# Altium footprint library SamacSys.PcbLib: 89 footprints (part 4 of 6)
Each footprint in its own frame and in the unit in brackets; x right, y up, seen from the top. Pads: shape width x height; smd on the part's side, far side on the other; paste and mask are expansions set on the pad; w line width, h text height; cw(c..) or ccw(c..) is an arc to the next point about the centre after c.
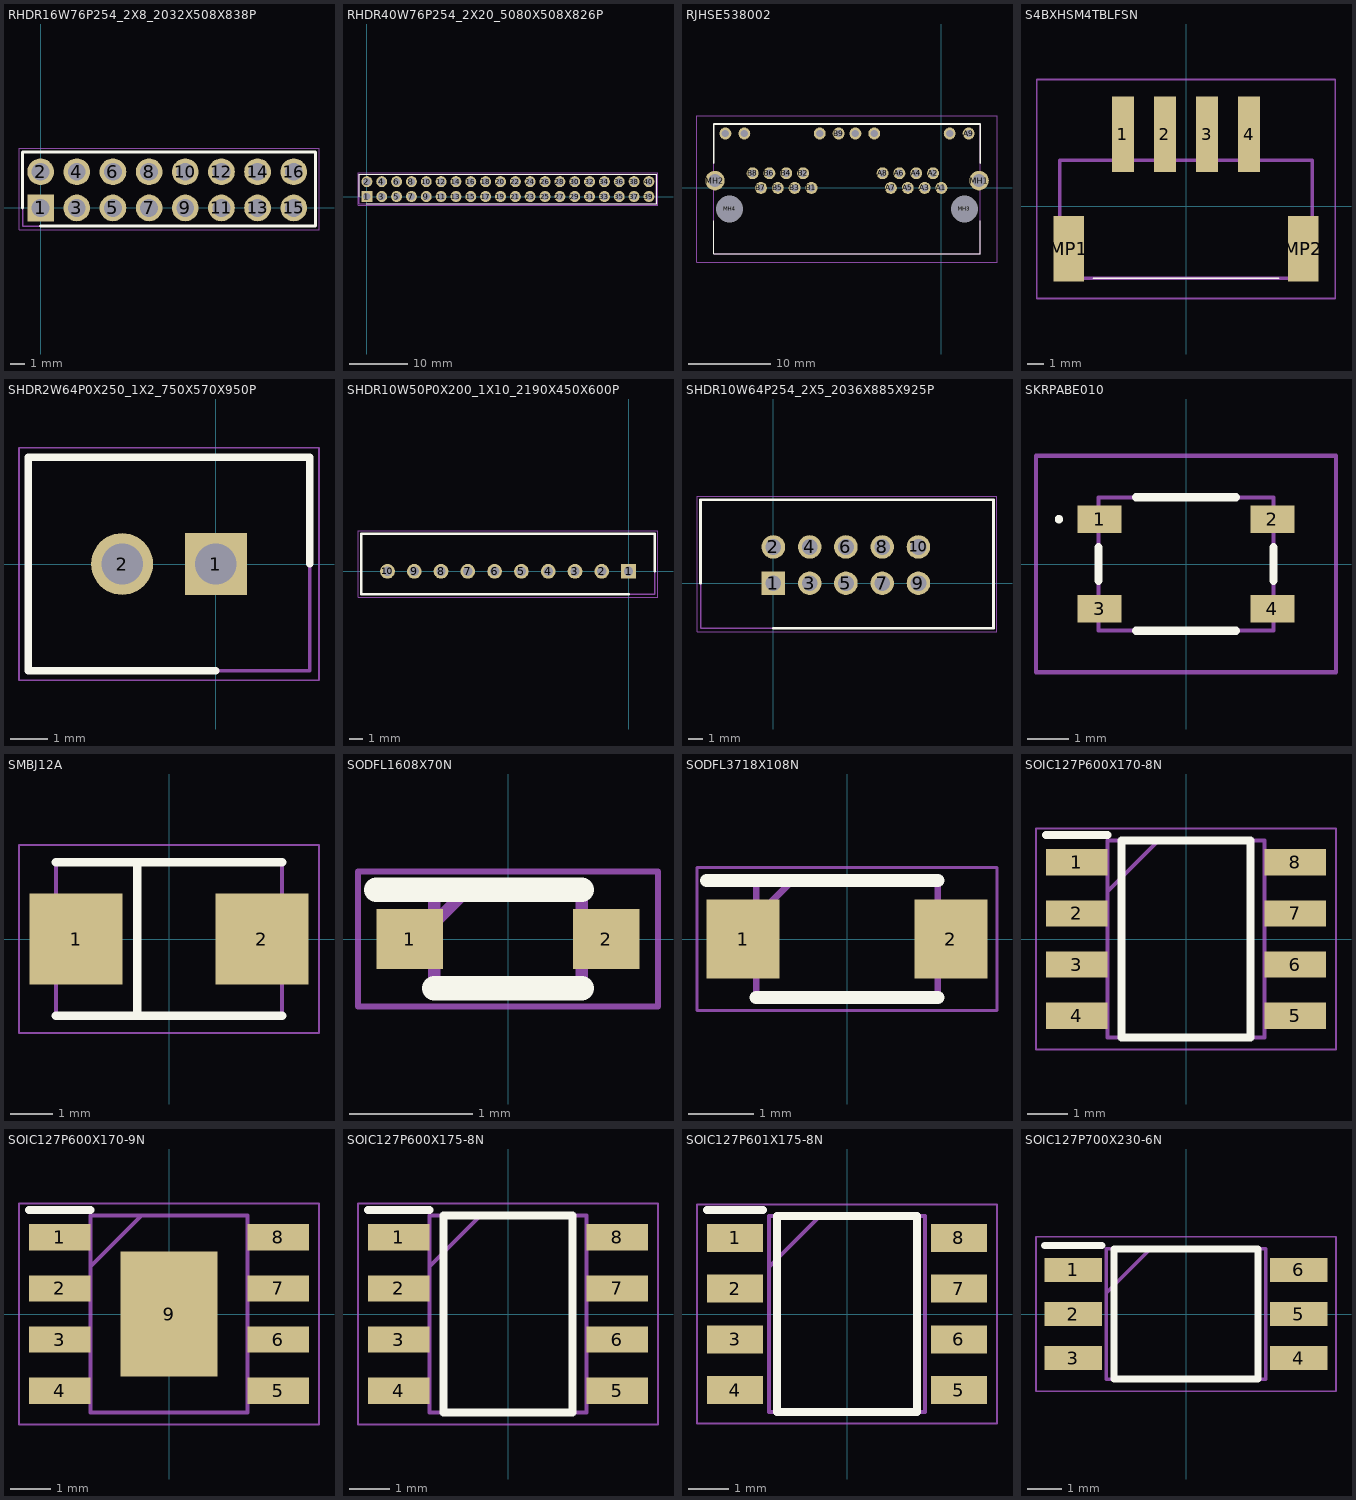
[diagram p3: the footprints below, top view; thin cyan lines are the x and y axes]

## RHDR16W76P254_2X8_2032X508X838P [mm]
pads (16):
  rect 1.875x1.875 hole 1.25: 1(0,0)
  round 1.875 hole 1.25: 2(0,2.54) 3(2.54,0) 4(2.54,2.54) 5(5.08,0) 6(5.08,2.54) 7(7.62,0) 8(7.62,2.54) 9(10.16,0) 10(10.16,2.54) 11(12.7,0) 12(12.7,2.54) 13(15.24,0) 14(15.24,2.54) 15(17.78,0) 16(17.78,2.54)
Top Overlay:
  lines w0.2: -1.27,0 -1.27,3.937 19.305,3.937 19.305,-1.27 0,-1.27
Mechanical 13:
  lines w0.1: -1.27,-1.27 -1.27,3.937 19.305,3.937 19.305,-1.27 -1.27,-1.27
Mechanical 15:
  lines w0.05: -1.52,-1.52 -1.52,4.187 19.555,4.187 19.555,-1.52 -1.52,-1.52
3D body "929975-01-08-RK.stp": height 8.38, standoff -3.43, extent -1.27,-1.27 19.05,3.81

## RHDR40W76P254_2X20_5080X508X826P [mm]
pads (40):
  rect 1.875x1.875 hole 1.25: 1(0,0)
  round 1.875 hole 1.25: 2(0,2.54) 3(2.54,0) 4(2.54,2.54) 5(5.08,0) 6(5.08,2.54) 7(7.62,0) 8(7.62,2.54) 9(10.16,0) 10(10.16,2.54) 11(12.7,0) 12(12.7,2.54) 13(15.24,0) 14(15.24,2.54) 15(17.78,0) 16(17.78,2.54) 17(20.32,0) 18(20.32,2.54) 19(22.86,0) 20(22.86,2.54) 21(25.4,0) 22(25.4,2.54) 23(27.94,0) 24(27.94,2.54) 25(30.48,0) 26(30.48,2.54) 27(33.02,0) 28(33.02,2.54) 29(35.56,0) 30(35.56,2.54) 31(38.1,0) 32(38.1,2.54) 33(40.64,0) 34(40.64,2.54) 35(43.18,0) 36(43.18,2.54) 37(45.72,0) 38(45.72,2.54) 39(48.26,0) 40(48.26,2.54)
Top Overlay:
  lines w0.2: -1.27,0 -1.27,3.845 49.565,3.845 49.565,-1.27 0,-1.27
Mechanical 13:
  lines w0.1: -1.27,-1.27 -1.27,3.81 49.53,3.81 49.53,-1.27 -1.27,-1.27
Mechanical 15:
  lines w0.05: -1.52,-1.52 -1.52,4.095 49.815,4.095 49.815,-1.52 -1.52,-1.52
3D body "929975-01-20-RK.stp": height 8.26, standoff -3.18, extent -1.27,-1.27 49.53,3.81

## RJHSE538002 [mm]
pads (28):
  round 1.446 hole 0.89: A1(0,0) A2(-1.02,1.78) A3(-2.04,0) A4(-3.06,1.78) A5(-4.08,0) A6(-5.1,1.78) A7(-6.12,0) A8(-7.14,1.78) A9(3.29,6.6) A10(1,6.6) A11(-8.14,6.6) A12(-10.43,6.6) B1(-15.75,0) B2(-16.77,1.78) B3(-17.79,0) B4(-18.81,1.78) B5(-19.83,0) B6(-20.85,1.78) B7(-21.87,0) B8(-22.89,1.78) B9(-12.46,6.6) B10(-14.75,6.6) B11(-23.89,6.6) B12(-26.18,6.6)
  round 2.355 hole 1.57: MH1(4.555,0.89) MH2(-27.445,0.89)
  round 1.625 hole 3.25 unplated: MH3(2.78,-2.54) MH4(-25.67,-2.54)
Top Overlay:
  lines w0.1: -27.575,-4 -27.575,-8 4.685,-8 4.685,-4
  lines w0.2: -27.575,3 -27.575,7.75 4.685,7.75 4.685,3
Mechanical 13:
  lines w0.1: -27.575,-8 4.685,-8 4.685,7.75 -27.575,7.75 -27.575,-8
Mechanical 15:
  lines w0.1: -29.623,-9 6.732,-9 6.732,8.75 -29.623,8.75 -29.623,-9
3D body "RJHSE-5380-02.stp": height 15.06, standoff -3.78, extent -29.155,-8.03 6.299,7.863

## S4BXHSM4TBLFSN [mm]
pads (6):
  rect 1.3x4.5 smd: 1(-3.75,4.275) 2(-1.25,4.275) 3(1.25,4.275) 4(3.75,4.275)
  rect 1.8x3.9 smd: MP1(-6.95,-2.525) MP2(6.95,-2.525)
Top Overlay:
  lines w0.1: -5.5,-4.275 5.5,-4.275
Mechanical 13:
  lines w0.2: -7.5,-4.275 7.5,-4.275 7.5,2.725 -7.5,2.725 -7.5,-4.275
Mechanical 15:
  lines w0.1: -8.85,-5.475 8.85,-5.475 8.85,7.525 -8.85,7.525 -8.85,-5.475
3D body "S4B-XH-SM4-TB_LF__SN_.stp": height 6, standoff 0, extent -7.495,-3.97 7.505,6.03

## SHDR2W64P0X250_1X2_750X570X950P [mm]
pads (2):
  rect 1.65x1.65 hole 1.1: 1(0,0)
  round 1.65 hole 1.1: 2(-2.5,0)
Top Overlay:
  lines w0.2: 0,-2.85 -5,-2.85 -5,2.85 2.5,2.85 2.5,0
Mechanical 13:
  lines w0.1: -5,-2.85 -5,2.85 2.5,2.85 2.5,-2.85 -5,-2.85
Mechanical 15:
  lines w0.05: -5.25,-3.1 -5.25,3.1 2.75,3.1 2.75,-3.1 -5.25,-3.1
3D body "DF1BZ-2P-2.5DSA.stp": height 9.5, standoff -3.6, extent -5,-2.85 2.5,2.85

## SHDR10W50P0X200_1X10_2190X450X600P [mm]
pads (10):
  rect 1.1x1.1 hole 0.7: 1(0,0)
  round 1.1 hole 0.7: 2(-2,0) 3(-4,0) 4(-6,0) 5(-8,0) 6(-10,0) 7(-12,0) 8(-14,0) 9(-16,0) 10(-18,0)
Top Overlay:
  lines w0.2: 0,-1.7 -19.95,-1.7 -19.95,2.8 1.95,2.8 1.95,0
Mechanical 13:
  lines w0.1: -19.95,-1.7 1.95,-1.7 1.95,2.8 -19.95,2.8 -19.95,-1.7
Mechanical 15:
  lines w0.05: -20.2,-1.95 2.2,-1.95 2.2,3.05 -20.2,3.05 -20.2,-1.95
3D body "B10B-PH-K-S_LF__SN_.stp": height 6, standoff -3.4, extent -19.95,-2.25 1.95,2.25

## SHDR10W64P254_2X5_2036X885X925P [mm]
pads (10):
  rect 1.65x1.65 hole 1.1: 1(0,0)
  round 1.65 hole 1.1: 2(0,2.54) 3(2.54,0) 4(2.54,2.54) 5(5.08,0) 6(5.08,2.54) 7(7.62,0) 8(7.62,2.54) 9(10.16,0) 10(10.16,2.54)
Top Overlay:
  lines w0.2: -5.1,0 -5.1,5.845 15.41,5.845 15.41,-3.155 0,-3.155
Mechanical 13:
  lines w0.1: -5.1,-3.155 -5.1,5.845 15.41,5.845 15.41,-3.155 -5.1,-3.155
Mechanical 15:
  lines w0.05: -5.35,-3.405 -5.35,6.095 15.66,6.095 15.66,-3.405 -5.35,-3.405
3D body "61201021621.stp": height 9.11, standoff -3, extent -5.02,-3.245 15.34,5.928

## SKRPABE010 [mm]
pads (4):
  rect 1.05x0.65 smd: 1(-2.075,1.075) 2(2.075,1.075) 3(-2.075,-1.075) 4(2.075,-1.075)
Top Overlay:
  lines w0.1: -3.1,1.075 cw(c-3.05,1.075) -3,1.075 cw(c-3.05,1.075) -3.1,1.075
  lines w0.2: -2.1,-0.4 -2.1,0.4 ; -1.2,-1.6 1.2,-1.6 ; -1.2,1.6 1.2,1.6 ; 2.1,-0.4 2.1,0.4
Mechanical 13:
  lines w0.1: -2.1,-1.6 2.1,-1.6 2.1,1.6 -2.1,1.6 -2.1,-1.6
Mechanical 15:
  lines w0.1: -3.6,-2.6 3.6,-2.6 3.6,2.6 -3.6,2.6 -3.6,-2.6
3D body "SKRPABE010.stp": height 2.5, standoff 0, extent -2.3,-1.6 2.3,1.6

## SMBJ12A [mm]
pads (2):
  rect 2.2x2.15 smd: 1(-2.2,0) 2(2.2,0)
Top Overlay:
  lines w0.2: -2.675,-1.812 2.675,-1.812 ; -2.675,1.812 2.675,1.812 ; -0.75,-1.812 -0.75,1.812
Mechanical 13:
  lines w0.1: -2.675,-1.812 -2.675,1.812 2.675,1.812 2.675,-1.812 -2.675,-1.812
Mechanical 15:
  lines w0.05: -3.55,-2.225 -3.55,2.225 3.55,2.225 3.55,-2.225 -3.55,-2.225
3D body "SMBJ33A.stp": height 2.33, standoff 0.01, extent -2.675,-1.86 2.675,1.86

## SODFL1608X70N [mm]
pads (2):
  rect 0.54x0.49 smd: 1(-0.8,0) 2(0.8,0)
Top Overlay:
  lines w0.2: -1.07,0.4 0.6,0.4 ; -0.6,-0.4 0.6,-0.4
Mechanical 13:
  lines w0.1: -0.6,0.13 -0.33,0.4 ; -0.6,-0.4 -0.6,0.4 0.6,0.4 0.6,-0.4 -0.6,-0.4
Mechanical 15:
  lines w0.05: -1.22,-0.55 -1.22,0.55 1.22,0.55 1.22,-0.55 -1.22,-0.55
3D body "ESD5Z5V0.stp": height 0.7, standoff 0, extent -0.8,-0.4 0.8,0.4

## SODFL3718X108N [mm]
pads (2):
  rect 1.12x1.22 smd: 1(-1.6,0) 2(1.6,0)
Top Overlay:
  lines w0.2: -2.16,0.9 1.4,0.9 ; -1.4,-0.9 1.4,-0.9
Mechanical 13:
  lines w0.1: -1.4,0.34 -0.84,0.9 ; -1.4,-0.9 1.4,-0.9 1.4,0.9 -1.4,0.9 -1.4,-0.9
Mechanical 15:
  lines w0.05: -2.31,-1.1 2.31,-1.1 2.31,1.1 -2.31,1.1 -2.31,-1.1
3D body "AR1FJ-M3_H.stp": height 1, standoff 0, extent -1.847,-0.901 1.853,0.899

## SOIC127P600X170-8N [mm]
pads (8):
  rect 1.525x0.65 smd: 1(-2.712,1.905) 2(-2.712,0.635) 3(-2.712,-0.635) 4(-2.712,-1.905) 5(2.712,-1.905) 6(2.712,-0.635) 7(2.712,0.635) 8(2.712,1.905)
Top Overlay:
  lines w0.2: -3.475,2.58 -1.95,2.58 ; -1.6,-2.45 -1.6,2.45 1.6,2.45 1.6,-2.45 -1.6,-2.45
Mechanical 13:
  lines w0.1: -1.95,1.18 -0.68,2.45 ; -1.95,-2.45 -1.95,2.45 1.95,2.45 1.95,-2.45 -1.95,-2.45
Mechanical 15:
  lines w0.05: -3.725,-2.75 -3.725,2.75 3.725,2.75 3.725,-2.75 -3.725,-2.75
3D body "TPS54560BDDA.stp": height 1.57, standoff 0, extent -3,-2.45 3,2.45

## SOIC127P600X170-9N [mm]
pads (9):
  rect 1.525x0.65 smd: 1(-2.712,1.905) 2(-2.712,0.635) 3(-2.712,-0.635) 4(-2.712,-1.905) 5(2.712,-1.905) 6(2.712,-0.635) 7(2.712,0.635) 8(2.712,1.905)
  rect 2.4x3.1 smd: 9(0,0)
Top Overlay:
  lines w0.2: -3.475,2.58 -1.95,2.58
Mechanical 13:
  lines w0.1: -1.95,1.18 -0.68,2.45 ; -1.95,-2.45 -1.95,2.45 1.95,2.45 1.95,-2.45 -1.95,-2.45
Mechanical 15:
  lines w0.05: -3.725,-2.75 -3.725,2.75 3.725,2.75 3.725,-2.75 -3.725,-2.75
3D body "TPS54560BDDAR.stp": height 1.57, standoff 0, extent -3,-2.45 3,2.45

## SOIC127P600X175-8N [mm]
pads (8):
  rect 1.525x0.65 smd: 1(-2.712,1.905) 2(-2.712,0.635) 3(-2.712,-0.635) 4(-2.712,-1.905) 5(2.712,-1.905) 6(2.712,-0.635) 7(2.712,0.635) 8(2.712,1.905)
Top Overlay:
  lines w0.2: -3.475,2.58 -1.95,2.58 ; -1.6,-2.45 1.6,-2.45 1.6,2.45 -1.6,2.45 -1.6,-2.45
Mechanical 13:
  lines w0.1: -1.95,1.18 -0.68,2.45 ; -1.95,-2.45 1.95,-2.45 1.95,2.45 -1.95,2.45 -1.95,-2.45
Mechanical 15:
  lines w0.05: -3.725,-2.75 3.725,-2.75 3.725,2.75 -3.725,2.75 -3.725,-2.75
3D body "NE555DR.stp": height 1.75, standoff 0, extent -3,-2.45 3,2.45

## SOIC127P601X175-8N [mm]
pads (8):
  rect 1.4x0.7 smd: 1(-2.8,1.905) 2(-2.8,0.635) 3(-2.8,-0.635) 4(-2.8,-1.905) 5(2.8,-1.905) 6(2.8,-0.635) 7(2.8,0.635) 8(2.8,1.905)
Top Overlay:
  lines w0.2: -3.5,2.605 -2.1,2.605 ; -1.75,-2.445 -1.75,2.445 1.75,2.445 1.75,-2.445 -1.75,-2.445
Mechanical 13:
  lines w0.1: -1.95,1.175 -0.68,2.445 ; -1.95,-2.445 -1.95,2.445 1.95,2.445 1.95,-2.445 -1.95,-2.445
Mechanical 15:
  lines w0.05: -3.75,-2.74 -3.75,2.74 3.75,2.74 3.75,-2.74 -3.75,-2.74

## SOIC127P700X230-6N [mm]
pads (6):
  rect 1.65x0.7 smd: 1(-3.25,1.27) 2(-3.25,0) 3(-3.25,-1.27) 4(3.25,-1.27) 5(3.25,0) 6(3.25,1.27)
Top Overlay:
  lines w0.2: -4.075,1.97 -2.425,1.97 ; -2.075,-1.875 2.075,-1.875 2.075,1.875 -2.075,1.875 -2.075,-1.875
Mechanical 13:
  lines w0.1: -2.3,0.605 -1.03,1.875 ; -2.3,-1.875 2.3,-1.875 2.3,1.875 -2.3,1.875 -2.3,-1.875
Mechanical 15:
  lines w0.05: -4.325,-2.225 4.325,-2.225 4.325,2.225 -4.325,2.225 -4.325,-2.225
3D body "TLP152_TPL,E.stp": height 2.3, standoff 0, extent -3.5,-1.875 3.5,1.875